# Altium schematic symbol library Galio-connectors.SchLib: 30 symbols
Pins are listed as number, name and electrical type; pins without a type are passive.

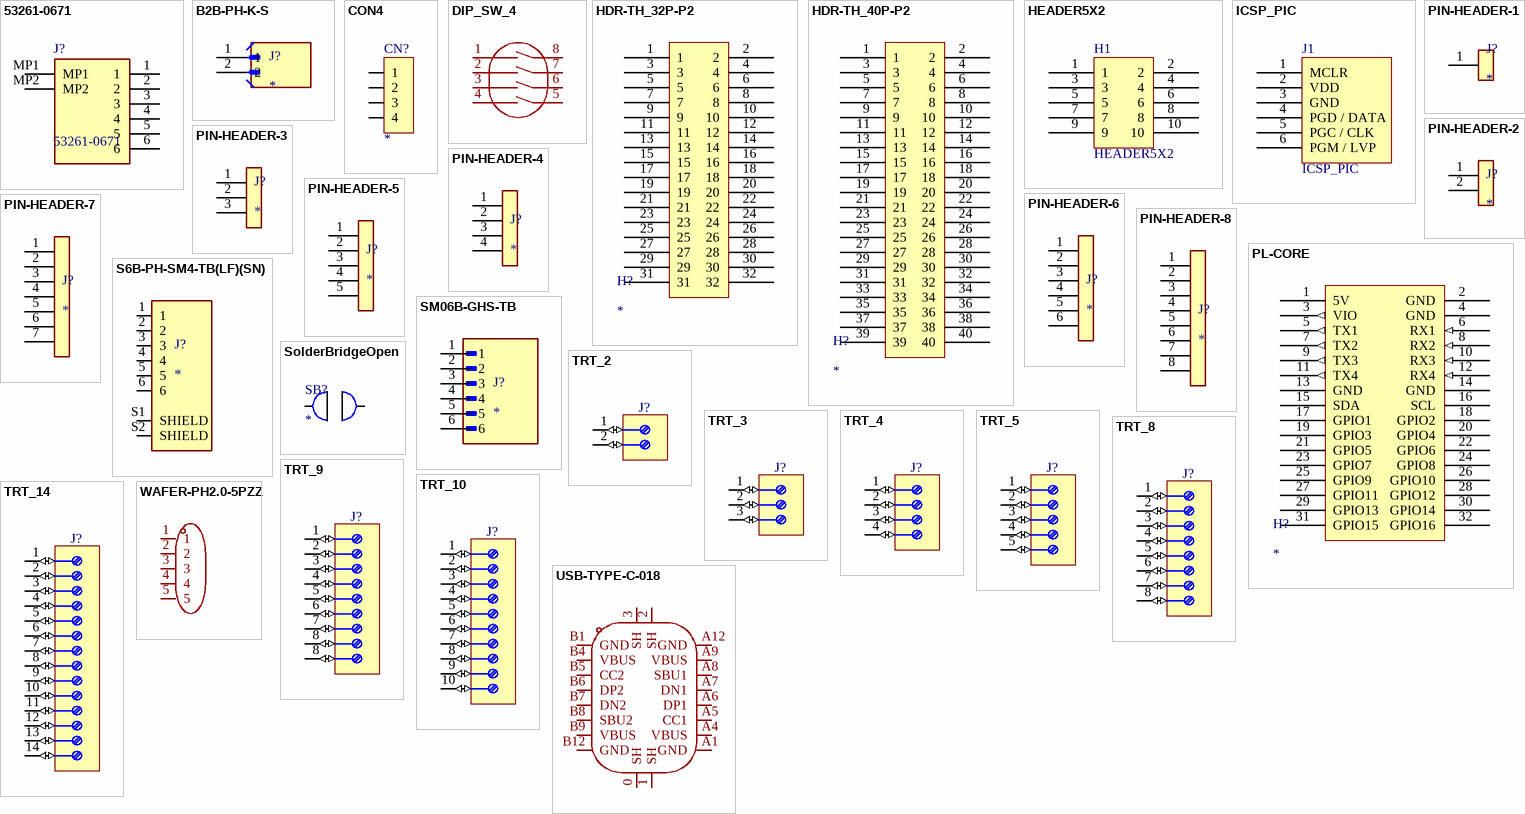
[diagram p0: symbols 53261-0671 to WAFER-PH2.0-5PZZ]

## 53261-0671
designator J?
1.25mm Pitch, PicoBlade PCB Header, Single Row, Right-Angle, Surface Mount, Tin (Sn) Plating, Friction Lock,  Circuits, Tape and Reel; Manufacturer_Name: Molex; Geometry.Height: 3.6mm; Mouser Part Number: 538-53261-0671; Mouser Price/Stock: https://www.mouser.co.uk/ProductDetail/Molex/53261-0671?qs=%252B72YyncTwW9Wyr77z4J2cA%3D%3D; Manufacturer_Part_Number: 53261-0671; Datasheet Link: https://www.molex.com/pdm_docs/sd/532610671_sd.pdf
footprint 532610671
pins: 1, 2, 3, 4, 5, 6, MP1, MP2

## B2B-PH-K-S
designator J?
Connector Header Through Hole 2 position 0.079 (2.00mm); MF: JST Sales America Inc.; MP: B2B-PH-K-S; SnapEDA_Link: https://www.snapeda.com/parts/B2B-PH-K-S/JST/view-part/?ref=snap; Package: None; Value: *; Check_prices: https://www.snapeda.com/parts/B2B-PH-K-S/JST/view-part/?ref=eda
footprint JST_B2B-PH-K-S
pins: 1, 2

## CON4
designator CN?
footprint CCT1 (cctalk connector)
pins: 1, 2, 3, 4

## DIP_SW_4
designator U?, comment dshp04tsger_c3293144  (value not drawn)
Circuit:SPST Number of Positions:4 Lead Pitch:1.27mm Current Rating:25mA Voltage Rating:24V Operating Temperature:-30℃~+85℃ Operating Temperature:-30℃~+85℃ Operating Life:3,000 Cycles Color:Black; Manufacturer: 康深; AddInBom: yes; ModelId: eb7e6701e5b4460c94d36d058df0d944; ModelName: SW-SMD_8P-L6.7-W5.4-H2.3-LS8.4-P1.27; ModelTransform: 262.992,342.519,0,180,0,0,0.004,0,0; Circuit: SPST; Number of Positions: 4; Current Rating: 25mA; Voltage Rating: 24V; Symbol: DSHP04TSGER_C3293144; LCSC Part Name: 4位 1.27mm间距贴片型 KE拨码开关; SupplierPart: C3293144; ManufacturerPart: DSHP04TSGER; Supplier Footprint: SMD,P=1.27mm; JLCPCB Part Class: Extended Part; Datasheet: https://item.szlcsc.com/datasheet/DSHP04TSGER/3856579.html; Supplier: LCSC; ConvertToPcb: yes; FootprintName: SW-SMD_8P-L6.7-W5.4-P1.27-LS8.4; Lead Pitch: 1.27mm; Operating Temperature: -30℃~+85℃; Operating Life: 3,000 Cycles; Color: Black
footprint SW-SMD_8P-L6.7-W5.4-P1.27-LS8.4
pins: 1, 2, 3, 4, 5, 6, 7, 8

## HDR-TH_32P-P2
designator H?
footprint HDR-TH_32P-P2.54-H-F-R2-C16-W8.5
pins: 1, 2, 3, 4, 5, 6, 7, 8, 9, 10, 11, 12, 13, 14, 15, 16, 17, 18, 19, 20, 21, 22, 23, 24, 25, 26, 27, 28, 29, 30, 31, 32

## HDR-TH_40P-P2
designator H?
footprint HDR-TH_40P-P2.00-H-F-R2-C20-W10.0 (Through Hole,Right Angle,P=2mm)
pins: 1, 2, 3, 4, 5, 6, 7, 8, 9, 10, 11, 12, 13, 14, 15, 16, 17, 18, 19, 20, 21, 22, 23, 24, 25, 26, 27, 28, 29, 30, 31, 32, 33, 34, 35, 36, 37, 38, 39, 40

## HEADER5X2
designator H1
footprint HEADER2X5
pins: 1, 2, 3, 4, 5, 6, 7, 8, 9, 10

## ICSP_PIC
designator J1
footprint ICSP_LATERAL
footprint ICSP_SMT_2_ROW (ISCP)
footprint ICSP_THT_2_ROW (ISCP)
footprint ICSP_VERTICAL
footprint ICSP_THT_2_ROW_2mm (ISCP)
footprint ICSP_SMT_2_ROW (ISCP 1.27mm 2 row)
pins: 1 MCLR, 2 VDD, 3 GND, 4 PGD / DATA, 5 PGC / CLK, 6 PGM / LVP

## PIN-HEADER-1
designator J?
Connector Header Through Hole 1 position -; MF: Samtec; MP: MTSW-101-06-T-S-100; SnapEDA_Link: https://www.snapeda.com/parts/MTSW-101-06-T-S-100/Samtec/view-part/?ref=snap; Package: None; Value: *; Check_prices: https://www.snapeda.com/parts/MTSW-101-06-T-S-100/Samtec/view-part/?ref=eda
footprint PIN-HEADER-1-FEMALE
footprint PIN-HEADER-1-MALE
pins: 1

## PIN-HEADER-2
designator J?
MP: MTSW-102-06-T-S-100; Price: None; Package: None; Availability: Unavailable; Value: *
footprint PIN-HEADER-2-FEMALE
footprint PIN-HEADER-2-MALE
pins: 1, 2

## PIN-HEADER-3
designator J?
MP: MTSW-103-06-T-S-190; Value: *; Availability: Unavailable; Package: None; Price: None
footprint PIN-HEADER-3-FEMALE
footprint PIN-HEADER-3-MALE
pins: 1, 2, 3

## PIN-HEADER-4
designator J?
MP: MTSW-104-06-T-S-100; Price: None; Availability: Unavailable; Package: None; Value: *
footprint PIN-HEADER-4-FEMALE
footprint PIN-HEADER-4-MALE
footprint HEADER2X2V
footprint PIN4_RA
footprint HEADER2X2
footprint HEADER4
pins: 1, 2, 3, 4

## PIN-HEADER-5
designator J?
MP: MTSW-105-06-T-S-100; Value: *; Availability: Unavailable; Price: None; Package: None
footprint PIN-HEADER-5-FEMALE
footprint PIN-HEADER-5-MALE
pins: 1, 2, 3, 4, 5

## PIN-HEADER-6
designator J?
MP: MTSW-106-06-T-S-100; Package: None; Price: None; Availability: Unavailable; Value: *
footprint PIN-HEADER-6-FEMALE
footprint PIN-HEADER-6-MALE
footprint PIN-HEADER-6-FEMALE-RIGHT-ANGLE
pins: 1, 2, 3, 4, 5, 6

## PIN-HEADER-7
designator J?
MP: MTSW-107-06-T-S-100; Value: *; Price: None; Package: None; Availability: Unavailable
footprint PIN-HEADER-7-FEMALE
footprint PIN-HEADER-7-MALE
pins: 1, 2, 3, 4, 5, 6, 7

## PIN-HEADER-8
designator J?
MP: MTSW-108-07-G-S-208; Availability: Unavailable; Value: *; Price: None; Package: None
footprint PIN-HEADER-8-FEMALE
footprint PIN-HEADER-8-MALE
pins: 1, 2, 3, 4, 5, 6, 7, 8

## PL-CORE
designator H?
footprint PL-CORE
pins: 1 5V (power), 2 GND, 3 VIO (out) "3.3 or 5V output", 4 GND, 5 TX1 (out), 6 RX1 (in), 7 TX2 (out), 8 RX2 (in), 9 TX3 (out), 10 RX3 (in), 11 TX4 (out), 12 RX4 (in), 13 GND, 14 GND, 15 SDA, 16 SCL, 17 GPIO1, 18 GPIO2, 19 GPIO3, 20 GPIO4, 21 GPIO5, 22 GPIO6, 23 GPIO7, 24 GPIO8, 25 GPIO9, 26 GPIO10, 27 GPIO11, 28 GPIO12, 29 GPIO13, 30 GPIO14, 31 GPIO15, 32 GPIO16

## S6B-PH-SM4-TB(LF)(SN)
designator J?
Connector Header Surface Mount, Right Angle 6 position 0.079 (2.00mm); MF: JST Sales; MP: S6B-PH-SM4-TB (LF)(SN); SnapEDA_Link: https://www.snapeda.com/parts/S6B-PH-SM4-TB%20(LF)(SN)/JST/view-part/?ref=snap; Package: None; Value: *; Check_prices: https://www.snapeda.com/parts/S6B-PH-SM4-TB%20(LF)(SN)/JST/view-part/?ref=eda
footprint JST_S6B-PH-SM4-TB(LF)(SN)
pins: 1, 2, 3, 4, 5, 6, S1 SHIELD, S2 SHIELD

## SM06B-GHS-TB
designator J?
Connector Header Surface Mount, Right Angle 6 position 0.049 (1.25mm); MF: JST Sales; MP: SM06B-GHS-TB; SnapEDA_Link: https://www.snapeda.com/parts/SM06B-GHS-TB/JST/view-part/?ref=snap; Package: None; Value: *; Check_prices: https://www.snapeda.com/parts/SM06B-GHS-TB/JST/view-part/?ref=eda
footprint JST_SM06B-GHS-TB
pins: 1, 2, 3, 4, 5, 6

## SolderBridgeOpen
designator SB?
footprint SB_Open
pins: 1 41, 2 42

## TRT_2
designator J?, comment TRT2  (value not drawn)
Terminal Block, 2 Positions, Screw Connection
footprint TRT_2_PLUG (Header,Male Pin,Covered(4 Sided))
footprint TRT_2_3.81_PLUG (Header,Male Pin,Covered(4 Sided))
footprint TRT2
footprint TRT_2_KF301 (Bornera KF301 de 2 Pines 5mm)
pins: 1 (io), 2 (io)

## TRT_3
designator J?, comment TRT3  (value not drawn)
Terminal Block, 3 Positions, Screw Connection
footprint TRT_3_PLUG (Header,Male Pin,Covered(4 Sided))
footprint TRT_3_KF301 (Bornera KF301 3 pines)
pins: 1 (io), 2 (io), 3 (io)

## TRT_4
designator J?, comment TRT4  (value not drawn)
TRT_4
footprint TRT_4_PLUG (Header,Male Pin,Covered(4 Sided))
footprint TRT_4_3.81_PLUG (Header,Male Pin,Covered(4 Sided))
footprint TB_2_4
footprint TB4
footprint TRT4
footprint TRT_4_ KF301 (Bornera KF301 de 4 Pines 5mm)
pins: 1 (io), 2 (io), 3 (io), 4 (io)

## TRT_5
designator J?, comment TRT5  (value not drawn)
TRT_5
footprint TRT_5_3.81_PLUG (Header,Male Pin,Covered(5 Sided))
pins: 1 (io), 2 (io), 3 (io), 4 (io), 5 (io)

## TRT_8
designator J?, comment TRT8  (value not drawn)
Terminal Block, 8 Positions, Screw Connection
footprint TRT_8_3.81_PLUG (Header,Male Pin,Covered(8))
pins: 1 (io), 2 (io), 3 (io), 4 (io), 5 (io), 6 (io), 7 (io), 8 (io)

## TRT_9
designator J?, comment TRT9  (value not drawn)
Terminal Block, 8 Positions, Screw Connection
footprint Model Name (Model Description)
footprint TRT_9_PLUG (Header,Male Pin,Covered(9 Sided))
pins: 1 (io), 2 (io), 3 (io), 4 (io), 5 (io), 6 (io), 7 (io), 8 (io), 8 (io)

## TRT_10
designator J?, comment TRT10  (value not drawn)
Terminal Block, 10Positions, Screw Connection
footprint TRT_10_3.81_PLUG (Header,Male Pin,Covered(10 Sided))
pins: 1 (io), 2 (io), 3 (io), 4 (io), 5 (io), 6 (io), 7 (io), 8 (io), 9 (io), 10 (io)

## TRT_14
designator J?, comment TRT14  (value not drawn)
Terminal Block, 10Positions, Screw Connection
footprint TRT_14_3.81_PLUG (Header,Male Pin,Covered(14 Sided))
pins: 1 (io), 2 (io), 3 (io), 4 (io), 5 (io), 6 (io), 7 (io), 8 (io), 9 (io), 10 (io), 11 (io), 12 (io), 13 (io), 14 (io)

## USB-TYPE-C-018
designator USB?  (value not drawn)
Manufacturer: DEALON(德艺隆); Add into BOM: yes; Connector Type: Type-C; Gender: Female; Number of Contacts: 16P; Number of Ports: 1; Current Rating-Power: 3A; Voltage Rating: 5V; Connect-Disconnect Life: 10,000 cycles; Symbol: USB-TYPE-C-018; Device: USB-TYPE-C-018; LCSC Part Name: Type-C 母 卧贴; Supplier Part: C2927038; Manufacturer Part: USB-TYPE-C-018; Supplier Footprint: SMD; JLCPCB Part Class: Extended Part; Datasheet: https://item.szlcsc.com/datasheet/USB-TYPE-C-018/3252507.html; Supplier: LCSC; Convert to PCB: yes; Protocol Standard: -; Mounting Type: Surface Mount, Right Angle; Length: 7.35mm; Operating Temperature: -25℃~+85℃
footprint USB-C_SMD-TYPE-C-31-M-12
3D model USB-C_SMD-TYPE-C-31-M-12
pins: 0 SH, 1 SH, 2 SH, 3 SH, A1 GND, A4 VBUS, A5 CC1, A6 DP1, A7 DN1, A8 SBU1, A9 VBUS, A12 GND, B1 GND, B4 VBUS, B5 CC2, B6 DP2, B7 DN2, B8 SBU2, B9 VBUS, B12 GND

## WAFER-PH2.0-5PZZ
designator CN?  (value not drawn)
Manufacturer: XUNPU(讯普); Add into BOM: yes; Pins Structure: 1x5P; Pitch: 2mm; Reference Series: PH; Number of PINs Per Row: 5; Current Rating: 2A; Voltage Rating: 250V; Plastic Material: PA66; Flame Retardant Rating: UL94V-0; Z-Height of the Board: 6.05mm; X-Length of Bottom Edge on Board (Spacing Line): 12mm; Y-Width of Bottom Edge on Board: 4.7mm; Symbol: WAFER-PH2.0-5PZZ; Device: WAFER-PH2.0-5PZZ; LCSC Part Name: 1x5P 间距:2mm 直插 系列:PH; Supplier Part: C5359602; Manufacturer Part: WAFER-PH2.0-5PZZ; Supplier Footprint: 插件,P=2mm; JLCPCB Part Class: Extended Part; Datasheet: https://item.szlcsc.com/datasheet/WAFER-PH2.0-5PZZ/6173838.html; Supplier: LCSC; Convert to PCB: yes; Mounting Type: Through Hole; Number of Pins: 5P; Number of Rows: 1; Row Spacing: -; Contact Material: Brass; Contact Plating: Tin; Operating Temperature: -25℃~+85℃; Supplementary Features: -; Color: White
footprint CONN-TH_5P-P2.00-PH5A
3D model CONN-TH_5P-P2.00-PH5A
pins: 1, 2, 3, 4, 5